# Altium integrated library Micron Memory Parallel NOR Flash.IntLib: 720 symbols (part 40 of 216)
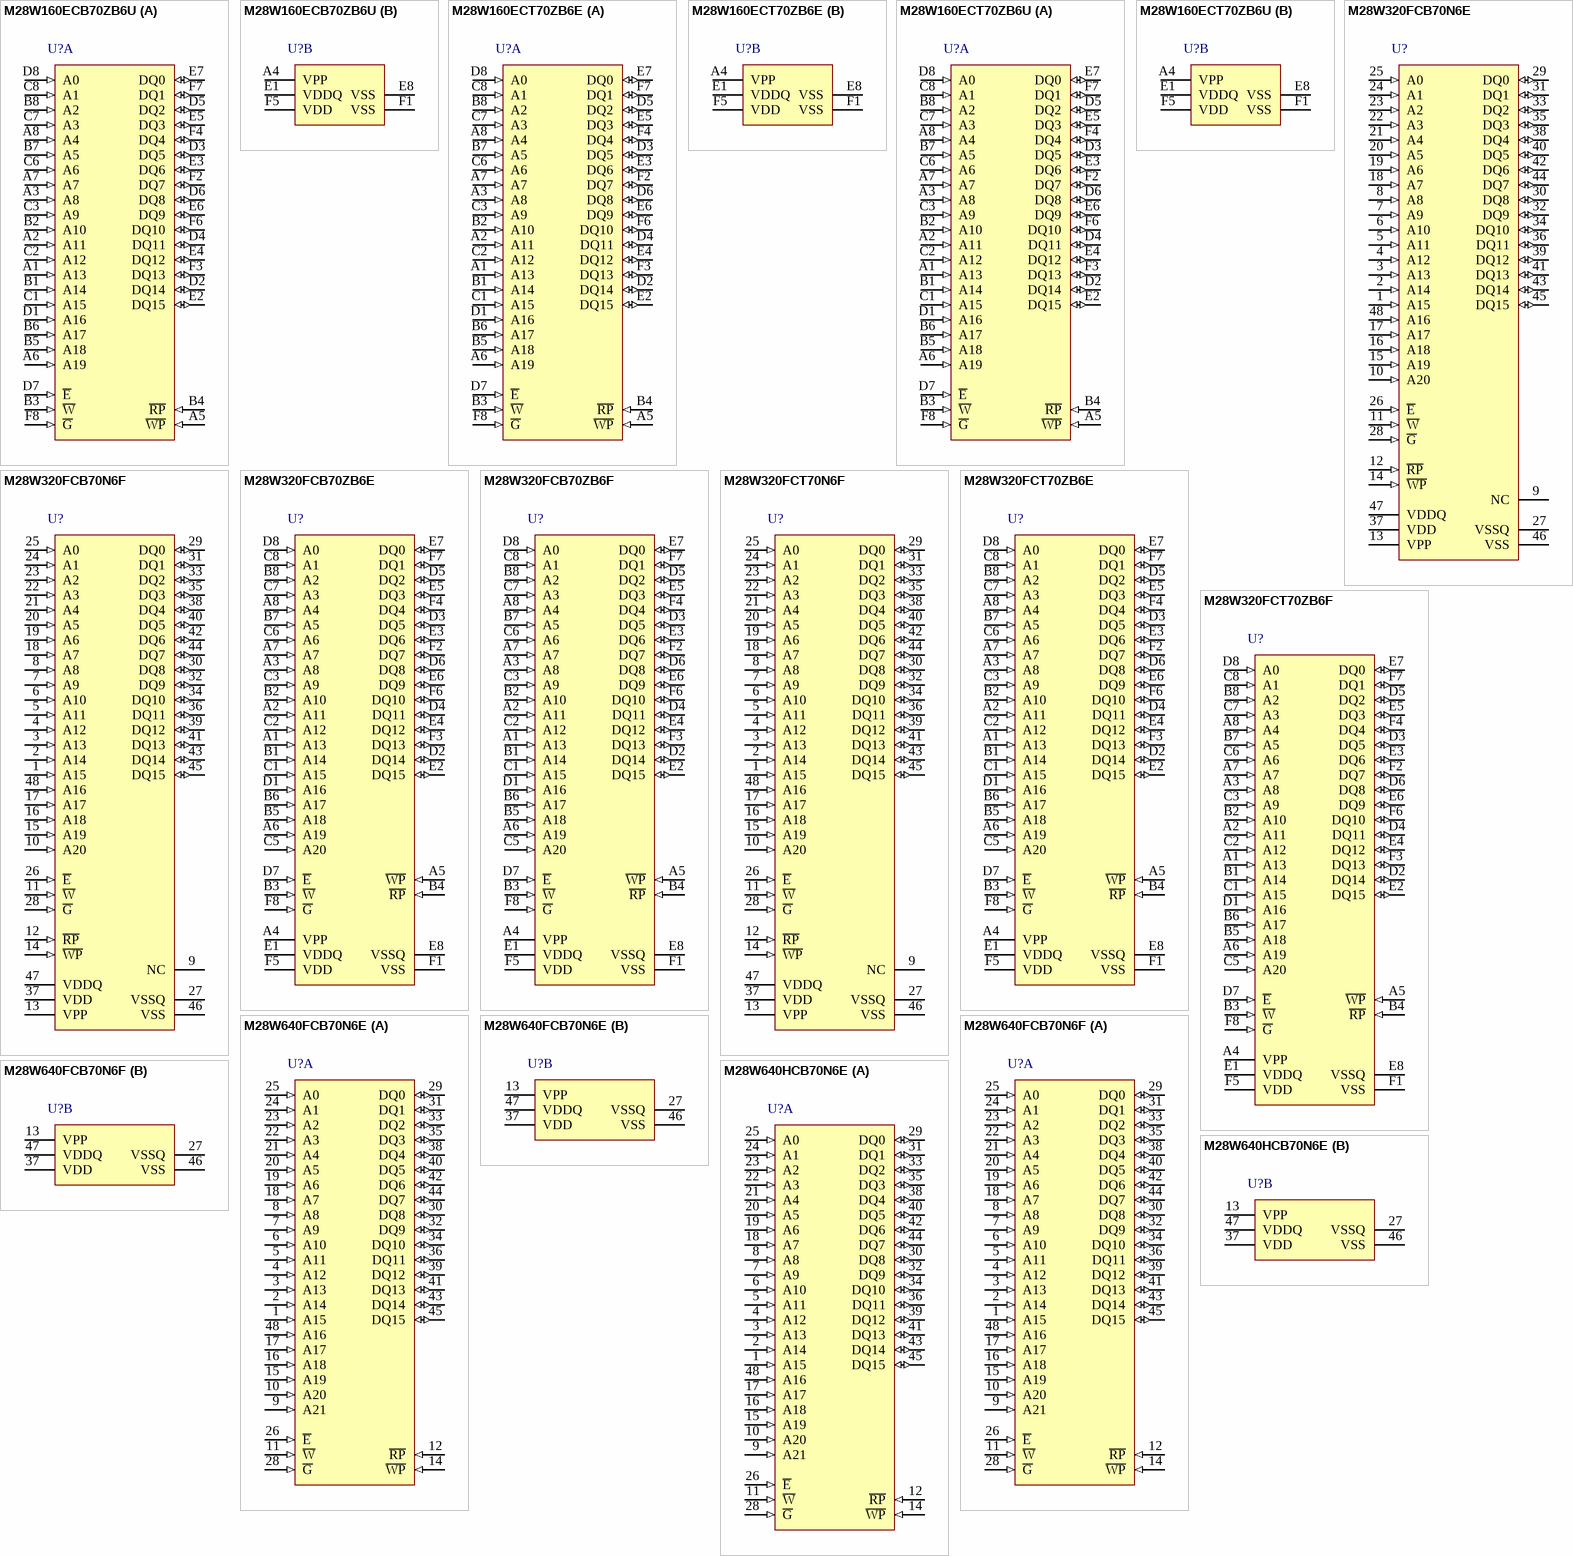
[diagram p196: symbols M28W160ECB70ZB6U to M28W640HCB70N6E]

## M28W160ECT70ZB6U
designator U?
16 Mb (x16) Parallel NOR Flash Memory, 70 ns, 2.7 to 3.6 V, 46-ball TFBGA (ZB), Tray; Part Family: M28W; Manufacturer: Micron; PartNumber: M28W160ECT70ZB6U; Density: 16Mb; Op Temp: -40C to +85C; Speed: 70ns; Voltage: 2.7V-3.6V; DatasheetVersion: Rev.7; PackageVersion: Rev 4; PackageReference: MICT-ZB-48; PackageDescription: 48-Ball VFBGA, 10.5 X 6.39 mm, Pitch 0.75 mm; RoHS: Yes; Width: x16; Mounting Technology: Surface Mount; ComponentLink1Description: Manufacturer URL; ComponentLink1URL: http://www.micron.com/; ComponentLink2Description: Datasheet; ComponentLink2URL: http://www.micron.com/~/media/Documents/Products/Data%20Sheet/NOR%20Flash/Parallel/M28W/M28W160EC.pdf; ComponentLink3Description: Package Specification; ComponentLink3URL: http://www.micron.com/~/media/Documents/Products/Data%20Sheet/NOR%20Flash/Parallel/M28W/M28W160EC.pdf
footprint MICT-ZB-48 (BGA, 48-Balls, Body 10.5x6.39mm, Pitch 0.75mm)
part A pins: A1 A13 (in) "The Address Input select the cells in the memory array to access during Bus Read operations. During Bus Write operations they control the commands sent to the Command Interface of the internal state machine.", A2 A11 (in) "The Address Input select the cells in the memory array to access during Bus Read operations. During Bus Write operations they control the commands sent to the Command Interface of the internal state machine.", A3 A8 (in) "The Address Input select the cells in the memory array to access during Bus Read operations. During Bus Write operations they control the commands sent to the Command Interface of the internal state machine.", A5 ~{WP} (in) "Write Protect is an input that gives an additional hardware protection for each block. When Write Protect is at VIL, the Lock-Down is enabled and the protection status of the block cannot be changed. When Write Protect is at (See Datasheet)", A6 A19 (in) "The Address Input select the cells in the memory array to access during Bus Read operations. During Bus Write operations they control the commands sent to the Command Interface of the internal state machine.", A7 (in) "The Address Input select the cells in the memory array to access during Bus Read operations. During Bus Write operations they control the commands sent to the Command Interface of the internal state machine.", A8 A4 (in) "The Address Input select the cells in the memory array to access during Bus Read operations. During Bus Write operations they control the commands sent to the Command Interface of the internal state machine.", B1 A14 (in) "The Address Input select the cells in the memory array to access during Bus Read operations. During Bus Write operations they control the commands sent to the Command Interface of the internal state machine.", B2 A10 (in) "The Address Input select the cells in the memory array to access during Bus Read operations. During Bus Write operations they control the commands sent to the Command Interface of the internal state machine.", B3 ~{W} (in) "The Write Enable controls the Bus Write operation of the memory’s Command Interface. The data and address inputs are latched on the rising edge of Chip Enable, E, or Write Enable, W, whichever occurs first.", B4 ~{RP} (in) "Write Protect is an input that gives an additional hardware protection for each block. When Write Protect is at VIL, the Lock- Down is enabled and the protection status of the block cannot be changed. When Write Protect is (See Datasheet)", B5 A18 (in) "The Address Input select the cells in the memory array to access during Bus Read operations. During Bus Write operations they control the commands sent to the Command Interface of the internal state machine.", B6 A17 (in) "The Address Input select the cells in the memory array to access during Bus Read operations. During Bus Write operations they control the commands sent to the Command Interface of the internal state machine.", B7 A5 (in) "The Address Input select the cells in the memory array to access during Bus Read operations. During Bus Write operations they control the commands sent to the Command Interface of the internal state machine.", B8 A2 (in) "The Address Input select the cells in the memory array to access during Bus Read operations. During Bus Write operations they control the commands sent to the Command Interface of the internal state machine.", C1 A15 (in) "The Address Input select the cells in the memory array to access during Bus Read operations. During Bus Write operations they control the commands sent to the Command Interface of the internal state machine.", C2 A12 (in) "The Address Input select the cells in the memory array to access during Bus Read operations. During Bus Write operations they control the commands sent to the Command Interface of the internal state machine.", C3 A9 (in) "The Address Input select the cells in the memory array to access during Bus Read operations. During Bus Write operations they control the commands sent to the Command Interface of the internal state machine.", C6 A6 (in) "The Address Input select the cells in the memory array to access during Bus Read operations. During Bus Write operations they control the commands sent to the Command Interface of the internal state machine.", C7 A3 (in) "The Address Input select the cells in the memory array to access during Bus Read operations. During Bus Write operations they control the commands sent to the Command Interface of the internal state machine.", C8 A1 (in) "The Address Input select the cells in the memory array to access during Bus Read operations. During Bus Write operations they control the commands sent to the Command Interface of the internal state machine.", D1 A16 (in) "The Address Input select the cells in the memory array to access during Bus Read operations. During Bus Write operations they control the commands sent to the Command Interface of the internal state machine.", D2 DQ14 (io) "The Data I/O outputs the data stored at the selected address during a Bus Read operation or inputs a command or the data to be programmed during a Write Bus operation.", D3 DQ5 (io) "The Data I/O outputs the data stored at the selected address during a Bus Read operation or inputs a command or the data to be programmed during a Write Bus operation.", D4 DQ11 (io) "The Data I/O outputs the data stored at the selected address during a Bus Read operation or inputs a command or the data to be programmed during a Write Bus operation.", D5 DQ2 (io) "The Data I/O Output the data stored at the selected address during a Bus Read operation or input a command or the data to be programmed during a Write Bus operation.", D6 DQ8 (io) "The Data I/O outputs the data stored at the selected address during a Bus Read operation or inputs a command or the data to be programmed during a Write Bus operation.", D7 ~{E} (in) "The Chip Enable input activates the memory control logic, input buffers, decoders and sense amplifiers. When Chip Enable is at VILand Reset is at VIH the device is in active mode. When Chip Enable is at VIH the memory is (See Datasheet)", D8 A0 (in) "The Address Input select the cells in the memory array to access during Bus Read operations. During Bus Write operations they control the commands sent to the Command Interface of the internal state machine.", E2 DQ15 (io) "The Data I/O outputs the data stored at the selected address during a Bus Read operation or inputs a command or the data to be programmed during a Write Bus operation.", E3 DQ6 (io) "The Data I/O outputs the data stored at the selected address during a Bus Read operation or inputs a command or the data to be programmed during a Write Bus operation.", E4 DQ12 (io) "The Data I/O outputs the data stored at the selected address during a Bus Read operation or inputs a command or the data to be programmed during a Write Bus operation.", E5 DQ3 (io) "The Data I/O outputs the data stored at the selected address during a Bus Read operation or input a command or the data to be programmed during a Write Bus operation.", E6 DQ9 (io) "The Data I/O outputs the data stored at the selected address during a Bus Read operation or inputs a command or the data to be programmed during a Write Bus operation.", E7 DQ0 (io) "The Data I/O Output the data stored at the selected address during a Bus Read operation or Input a command or the data to be programmed during a Write Bus operation.", F2 DQ7 (io) "The Data I/O outputs the data stored at the selected address during a Bus Read operation or inputs a command or the data to be programmed during a Write Bus operation.", F3 DQ13 (io) "The Data I/O outputs the data stored at the selected address during a Bus Read operation or inputs a command or the data to be programmed during a Write Bus operation.", F4 DQ4 (io) "The Data I/O OUTPUT the data stored at the selected address during a Bus Read operation or INPUT a command or the data to be programmed during a Write Bus operation.", F6 DQ10 (io) "The Data I/O outputs the data stored at the selected address during a Bus Read operation or inputs a command or the data to be programmed during a Write Bus operation.", F7 DQ1 (io) "The Data I/O Output the data stored at the selected address during a Bus Read operation or inputs a command or the data to be programmed during a Write Bus operation.", F8 ~{G} (in) "The Output Enable controls data outputs during the Bus Read operation of the memory."
part B pins: A4 VPP (power) "VPP is both a control input and a power supply pin. The two functions are selected by the voltage range applied to the pin. The Supply Voltage VDD and the Program Supply Voltage VPP can be applied in any order. If VPP is (See Datasheet)", E1 VDDQ (power) "VDDQ provides the power supply to the I/O pins and enables all Outputs to be powered independently from VDD. VDDQ can be tied to VDD or can use a separate supply.", E8 VSS (power) "VSS is the reference for all voltage measurements.", F1 VSS (power) "VSS is the reference for all voltage measurements.", F5 VDD (power) "VDD provides the power supply to the internal core of the memory device. It is the main power supply for all operations (Read, Program and Erase)."